# Altium schematic symbol library capasitors.SchLib: 11 symbols
Pins are listed as number, name and electrical type; pins without a type are passive.

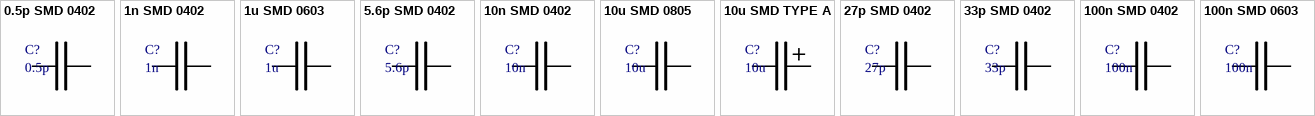
[diagram p0: symbols 0.5p SMD 0402 to 100n SMD 0603]

## 0.5p SMD 0402
designator C?, comment 0.5p
+/- 0.25pF NP0 SMD 0402; PartNumber: GRM1555C1HR50BA01D; Supplier: Terraelectronica; Unit Price: 0.69; WebLink: https://www.terraelectronica.ru/product/817877
footprint CAP0402
footprint CAP0402-LONG
pins: 1, 2

## 1n SMD 0402
designator C?, comment 1n
0402 SMD
footprint CAP0402
footprint CAP0402-LONG
pins: 1, 2

## 1u SMD 0603
designator C?, comment 1u
10% 10V X5R SMD 0604; PartNumber: CC0603KRX5R6BB105; Unit Price: 0.53; WebLink: https://www.terraelectronica.ru/product/675328
footprint CAP0603 (Chip Resistor, 2-Leads, Body 2,0x1,3mm, IPC Medium Density)
pins: 1, 2

## 5.6p SMD 0402
designator C?, comment 5.6p
+/- 0.25pF NP0 SMD 0402; PartNumber: CC0402CRNPO9BN5R6; Supplier: Terraelectronica; Unit Price: 0.27; WebLink: https://www.terraelectronica.ru/product/980955
footprint CAP0402
footprint CAP0402-LONG
pins: 1, 2

## 10n SMD 0402
designator C?, comment 10n
0402 SMD; PartNumber: GRM155R71H103KA88D; Supplier: Terraelectronica; Unit Price: 0.14; WebLink: https://www.terraelectronica.ru/product/575020
footprint CAP0402
footprint CAP0402-LONG
pins: 1, 2

## 10u SMD 0805
designator C?, comment 10u
0805 SMD
footprint CAP0805
pins: 1, 2

## 10u SMD TYPE A
designator C?, comment 10u
SMD TYPE A
footprint CapSMDA
pins: 1, 2

## 27p SMD 0402
designator C?, comment 27p
0402 SMD; PartNumber: CL05C270JB5NNNC; Supplier: Terraelectronica; Unit Price: 0.24; WebLink: https://www.terraelectronica.ru/product/863257
footprint CAP0402
footprint CAP0402-LONG
pins: 1, 2

## 33p SMD 0402
designator C?, comment 33p
0402 SMD; PartNumber: CC0402JRNPO9BN330; Supplier: Terraelectronica; Unit Price: 0.24; WebLink: https://www.terraelectronica.ru/product/367363
footprint CAP0402
footprint CAP0402-LONG
pins: 1, 2

## 100n SMD 0402
designator C?, comment 100n
0402 SMD
footprint CAP0402
footprint CAP0402-LONG
pins: 1, 2

## 100n SMD 0603
designator C?, comment 100n
SMD 0603
footprint CAP0603 (Chip Resistor, 2-Leads, Body 2,0x1,3mm, IPC Medium Density)
footprint CAP0402-LONG
pins: 1, 2